# EAGLE library part DIL6 (library ic-package)
Dual In Line / Socket
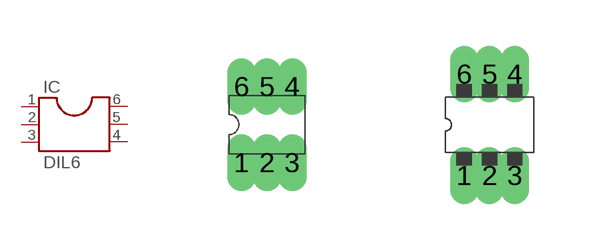
[diagram p0: symbol with the pads of DIL06; footprints DIL06, DIL06-4]

Designator prefix IC

## DIL6  [DIL06]
1  1  pas
2  2  pas
3  3  pas
4  4  pas
5  5  pas
6  6  pas

## DIL6/4  [DIL06-4]
Pads as for DIL06

## DIL6S  [SOCKET-06]
Pads as for DIL06

## Footprint DIL06 (pad centres in mm)
Dual In Line Package
drill 0.203 long: 1 -0.635,-0.953; 2 0,-0.953; 3 0.635,-0.953; 4 0.635,0.953; 5 0,0.953; 6 -0.635,0.953

## Footprint DIL06-4 (pad centres in mm)
Dual In Line Package 0.4 inch
drill 0.203 long: 1 -0.635,-1.27; 2 0,-1.27; 3 0.635,-1.27; 4 0.635,1.27; 5 0,1.27; 6 -0.635,1.27

## Footprint SOCKET-06 (pad centres in mm)
Dual In Line Socket
drill 0.203 long: 1 -0.635,-0.953; 2 0,-0.953; 3 0.635,-0.953; 4 0.635,0.953; 5 0,0.953; 6 -0.635,0.953